# Altium schematic symbol library EAX300_TesterControlBoard.SchLib: 6 symbols
Pins are listed as number, name and electrical type; pins without a type are passive.

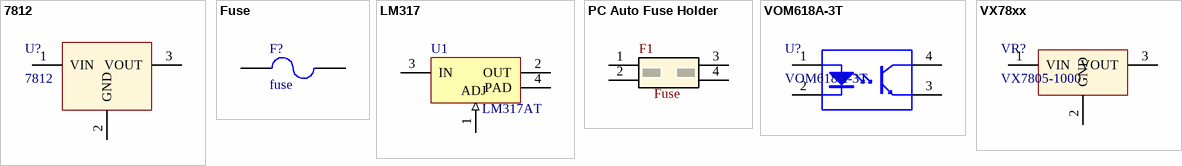
[diagram p0: symbols 7812 to VX78xx]

## 7812
designator U?
footprint 7812 (3-PIN VOLTAGE REGULATOR)
pins: 1 VIN, 2 GND, 3 VOUT

## Fuse
designator F?, comment fuse
Published: 8-Jun-2000; LatestRevisionDate: 17-Jul-2002; LatestRevisionNote: Re-released for DXP Platform.; PackageReference: PIN-W2/E2.8; Publisher: Altium Limited; PackageDescription: Thru-Hole; 2 Leads
footprint PIN-W2/E2.8 (Thru-Hole; 2 Leads)
simulation model FUSE (Spice Subcircuit)
pins: 1, 2

## LM317
designator U1, comment LM317AT
3-Terminal Adjustable Regulator, 3-pin TO-220, Pb-Free; MFR: ON Semiconductor; CompType: LDO IC; Parameter 1: LM317MBSTT3G; RoHS: Y; ComponentLink1Description: LM317 Datasheet; ComponentLink2Description: LM317 Web Page; PinCount: 4; ComponentLink2URL: http://www.national.com/pf/LM/LM317.html; ComponentLink1URL: http://www.national.com/ds/LM/LM317.pdf
footprint SOT223_M (SOT223, 4-Leads, Body 6.5x3.5mm, Pitch 2.3mm, Lead Span 7mm, IPC Low Density)
pins: 1 ADJ (in), 2 OUT (power), 3 IN (power), 4 PAD (power)

## PC Auto Fuse Holder
designator F1  Amperage: Fuse  (hidden comment: PC Auto Fuse Holder)
Fuse Holder 2 IN 1 AUTO BLDE HOLDER; MPN: 3587-10; MFR: Keystone Electronics; ComponentLink1URL: http://www.mouser.com/ds/2/215/557-10-961412.pdf; ComponentLink1Description: Datasheet
footprint AUTO-FUSE HOLDER
pins: 1, 2, 3, 4

## VOM618A-3T
designator U?
Single opto-isolator
footprint VOM618A-3T (Single Opto-Isolator)
pins: 1 ANODE, 2 CATHODE, 3 EMITTER, 4 COLLECTOR

## VX78xx
designator VR?, comment VX7805-1000
Non-Isolated DC Switching Regulator; MFR: CUI, Inc.; MFR P/N: VX7805-1000; Footprint: *; ComponentLink1Description: Datasheet; ComponentLink1URL: https://www.cui.com/product/resource/vx78-1000.pdf
footprint 78xx (3-Pin Voltage Regulator)
pins: 1 VIN, 2 GND, 3 VOUT